# EAGLE library part 93LC46B-I/MS (library Microchip_By_element14_Batch_1)
1K Microwire Compatible Serial EEPROM
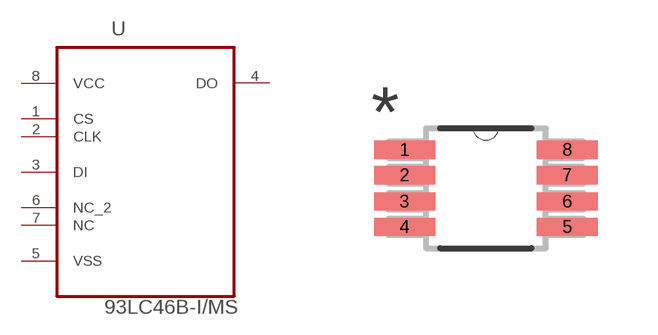
[diagram p226: symbol with the pads of SOP65P490X110-8N; footprint SOP65P490X110-8N]

Designator prefix -

## 93LC46B-I/MS (DESCRIPTION: EEPROM; MPN: 93LC46B-I/MS; OC_FARNELL: 1331459; OC_NEWARK: 92C7657; PACKAGE: MSOP-8; SUPPLIER: MICROCHIP)  [SOP65P490X110-8N]
1  CS  in
2  CLK  in
3  DI  in
4  DO  out
5  VSS  pas
6  NC_2  nc
7  NC  nc
8  VCC  pwr

## Footprint SOP65P490X110-8N (pad centres in mm)
smd 1.524 x 0.457: 1 -2.032,0.965; 2 -2.032,0.33; 3 -2.032,-0.33; 4 -2.032,-0.965; 5 2.032,-0.965; 6 2.032,-0.33; 7 2.032,0.33; 8 2.032,0.965